# EAGLE library part SPI_DISPLAY (library SynkinoLC)
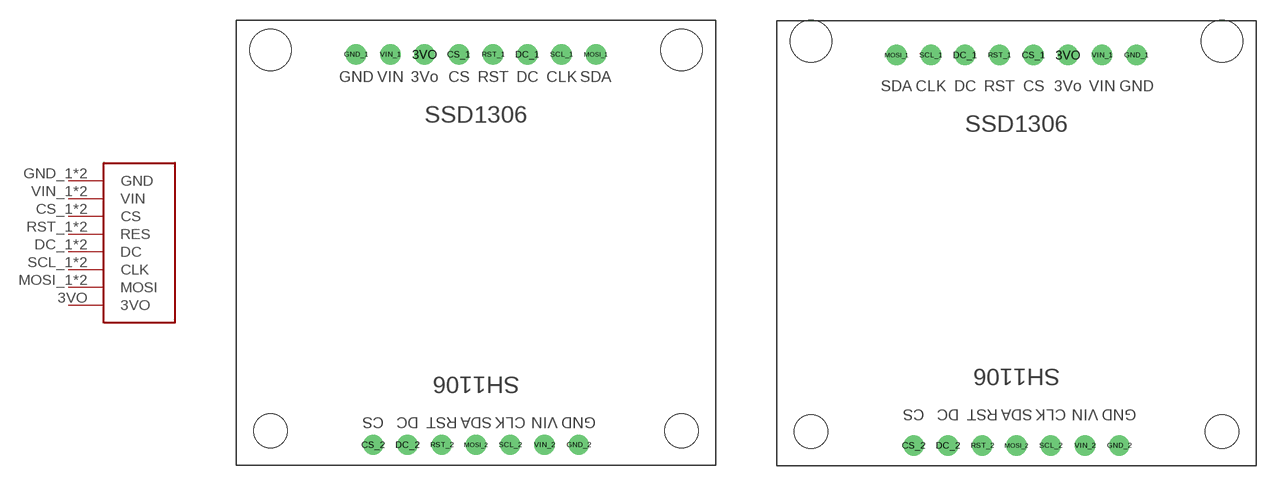
[diagram p0: symbol with the pads of SPI_DISPLAY; footprints SPI_DISPLAY, SPI_DISPLAY2]

Designator prefix -

## SPI_DISPLAY  [SPI_DISPLAY]
3VO  3VO
CS_1  CS
CS_2  CS
DC_1  DC
DC_2  DC
GND_1  GND
GND_2  GND
MOSI_1  MOSI
MOSI_2  MOSI
RST_1  RES
RST_2  RES
SCL_1  CLK
SCL_2  CLK
VIN_1  VIN
VIN_2  VIN

## SPI_DISPLAYSPI_DISPLAY2  [SPI_DISPLAY2]
Pads as for SPI_DISPLAY

## Footprint SPI_DISPLAY (pad centres in mm)
drill 1: 3VO -3.81,13.97; CS_1 -1.27,13.97; CS_2 -7.62,-15.01; DC_1 3.81,13.97; DC_2 -5.08,-15.01; GND_1 -8.89,13.97; GND_2 7.62,-15.01; MOSI_1 8.89,13.97; MOSI_2 0,-15.01; RST_1 1.27,13.97; RST_2 -2.54,-15.01; SCL_1 6.35,13.97; SCL_2 2.54,-15.01; VIN_1 -6.35,13.97; VIN_2 5.08,-15.01
hole 2.5 at 15.24,-13.97
hole 2.5 at -15.24,-13.97
hole 3.1 at -15.24,14.3
hole 3.1 at 15.24,14.3

## Footprint SPI_DISPLAY2 (pad centres in mm)
drill 1: 3VO 3.81,13.97; CS_1 1.27,13.97; CS_2 -7.62,-15.01; DC_1 -3.81,13.97; DC_2 -5.08,-15.01; GND_1 8.89,13.97; GND_2 7.62,-15.01; MOSI_1 -8.89,13.97; MOSI_2 0,-15.01; RST_1 -1.27,13.97; RST_2 -2.54,-15.01; SCL_1 -6.35,13.97; SCL_2 2.54,-15.01; VIN_1 6.35,13.97; VIN_2 5.08,-15.01
hole 2.5 at 15.24,-13.97
hole 2.5 at -15.24,-13.97
hole 3.1 at -15.24,15.01
hole 3.1 at 15.24,15.01